# Altium schematic symbol library Flyback.SchLib: 1 symbol
Pins are listed as number, name and electrical type; pins without a type are passive.

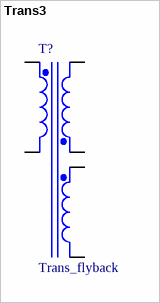
[diagram p0: symbol Trans3]

## Trans3
designator T?, comment Trans_flyback
Three-winding Transformer (Non-Ideal)
pins: 1 Pri+, 2 Pri-, 3 Sec1+, 4 Sec1-, 5 Sec2+, 6 Sec2-